# EAGLE library part 210-6MS (library Micromouse 2020)
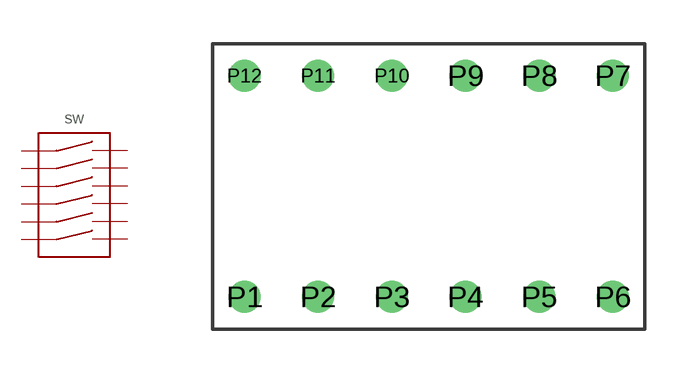
[diagram p9: symbol with the pads of 210-6MS; footprint 210-6MS]

Designator prefix SW

## 210-6MS  [210-6MS]
P1  1A  pas
P2  2A  pas
P3  3A  pas
P4  4A  pas
P5  5A  pas
P6  6A  pas
P7  6B  pas
P8  5B  pas
P9  4B  pas
P10  3B  pas
P11  2B  pas
P12  1B  pas

## Footprint 210-6MS (pad centres in mm)
drill 0.6: P1 -6.35,-3.81; P2 -3.81,-3.81; P3 -1.27,-3.81; P4 1.27,-3.81; P5 3.81,-3.81; P6 6.35,-3.81; P7 6.35,3.81; P8 3.81,3.81; P9 1.27,3.81; P10 -1.27,3.81; P11 -3.81,3.81; P12 -6.35,3.81